# Altium schematic symbol library SS8550.SchLib: 1 symbol
Pins are listed as number, name and electrical type; pins without a type are passive.

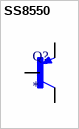
[diagram p0: symbol SS8550]

## SS8550
designator Q?
Bipolar (BJT) Transistor PNP 25 V 1.5 A 100MHz 300 mW Surface Mount SOT-23; MF: MDD; MP: SS8550; SnapEDA_Link: https://www.snapeda.com/parts/SS8550/MDD/view-part/?ref=snap; Package: SOT-23-3 MDD; Value: *; Check_prices: https://www.snapeda.com/parts/SS8550/MDD/view-part/?ref=eda
footprint SOT95P252X140-3N
pins: 1 B, 2 E, 3 C